# EAGLE library part MMPF0100F3A (library power)
PMIC for i.MX6 processors
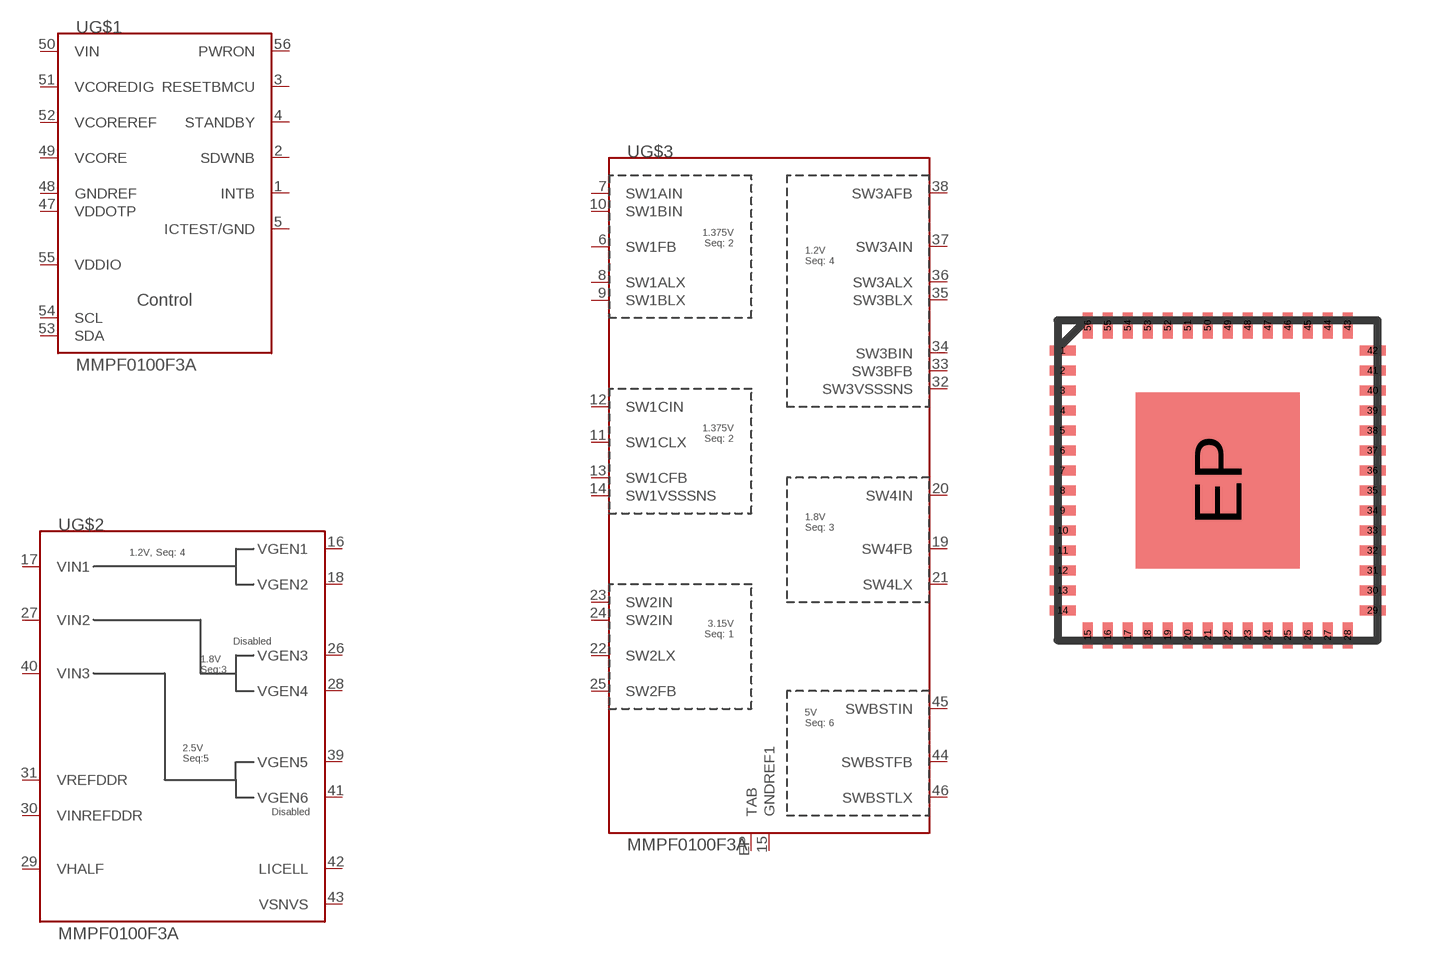
[diagram p0: symbol with the pads of QFN56_8X8P0.5; footprint QFN56_8X8P0.5]

Designator prefix U; gates G$1=PF0100.CTRL G$2=PF0100.LDO G$3=PF0100.SW-REG

## MMPF0100F3AEP  [QFN56_8X8P0.5]
1  G$1:INTB  out
2  G$1:SDWNB  out
3  G$1:RESETBMCU  out
4  G$1:STANDBY  in
5  G$1:ICTEST/GND  in
6  G$3:SW1FB  in
7  G$3:SW1AIN  in
8  G$3:SW1ALX  out
9  G$3:SW1BLX  out
10  G$3:SW1BIN  in
11  G$3:SW1CLX  out
12  G$3:SW1CIN  in
13  G$3:SW1CFB  in
14  G$3:SW1VSSSNS  pwr
15  G$3:GNDREF1  pwr
16  G$2:VGEN1  out
17  G$2:VIN1  in
18  G$2:VGEN2  out
19  G$3:SW4FB  in
20  G$3:SW4IN  in
21  G$3:SW4LX  out
22  G$3:SW2LX  out
23  G$3:SW2IN  in
24  G$3:SW2IN  in
25  G$3:SW2FB  in
26  G$2:VGEN3  out
27  G$2:VIN2  in
28  G$2:VGEN4  out
29  G$2:VHALF  in
30  G$2:VINREFDDR  in
31  G$2:VREFDDR  out
32  G$3:SW3VSSSNS  pwr
33  G$3:SW3BFB  in
34  G$3:SW3BIN  in
35  G$3:SW3BLX  out
36  G$3:SW3ALX  out
37  G$3:SW3AIN  in
38  G$3:SW3AFB  in
39  G$2:VGEN5  out
40  G$2:VIN3  in
41  G$2:VGEN6  out
42  G$2:LICELL
43  G$2:VSNVS  out
44  G$3:SWBSTFB  in
45  G$3:SWBSTIN  in
46  G$3:SWBSTLX  out
47  G$1:VDDOTP  in
48  G$1:GNDREF  pwr
49  G$1:VCORE  out
50  G$1:VIN  in
51  G$1:VCOREDIG  out
52  G$1:VCOREREF  out
53  G$1:SDA
54  G$1:SCL  in
55  G$1:VDDIO  in
56  G$1:PWRON  in
EP  G$3:TAB  in

## Footprint QFN56_8X8P0.5 (pad centres in mm)
OFN56_8X8P0.5 Auto generated by make-symbol-device-package-bsdl.ulp Rev. 44
smd 0.65 x 0.25: 1 -3.875,3.25; 2 -3.875,2.75; 3 -3.875,2.25; 4 -3.875,1.75; 5 -3.875,1.25; 6 -3.875,0.75; 7 -3.875,0.25; 8 -3.875,-0.25; 9 -3.875,-0.75; 10 -3.875,-1.25; 11 -3.875,-1.75; 12 -3.875,-2.25; 13 -3.875,-2.75; 14 -3.875,-3.25; 29 3.875,-3.25; 30 3.875,-2.75; 31 3.875,-2.25; 32 3.875,-1.75; 33 3.875,-1.25; 34 3.875,-0.75; 35 3.875,-0.25; 36 3.875,0.25; 37 3.875,0.75; 38 3.875,1.25; 39 3.875,1.75; 40 3.875,2.25; 41 3.875,2.75; 42 3.875,3.25
smd 0.25 x 0.65: 15 -3.25,-3.875; 16 -2.75,-3.875; 17 -2.25,-3.875; 18 -1.75,-3.875; 19 -1.25,-3.875; 20 -0.75,-3.875; 21 -0.25,-3.875; 22 0.25,-3.875; 23 0.75,-3.875; 24 1.25,-3.875; 25 1.75,-3.875; 26 2.25,-3.875; 27 2.75,-3.875; 28 3.25,-3.875; 43 3.25,3.875; 44 2.75,3.875; 45 2.25,3.875; 46 1.75,3.875; 47 1.25,3.875; 48 0.75,3.875; 49 0.25,3.875; 50 -0.25,3.875; 51 -0.75,3.875; 52 -1.25,3.875; 53 -1.75,3.875; 54 -2.25,3.875; 55 -2.75,3.875; 56 -3.25,3.875
smd 4.1 x 4.4: EP 0,0